# EAGLE library part TOS-23101BMRL-B (library 7seg-big)
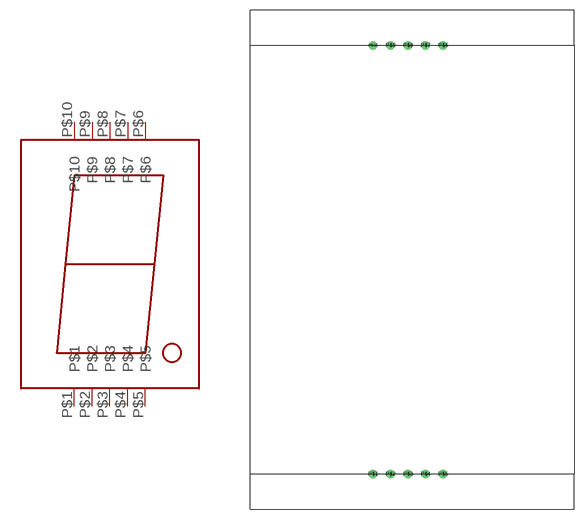
[diagram p0: symbol with the pads of TOS-23101BMRL-B; footprint TOS-23101BMRL-B]

Designator prefix -

## TOS-23101BMRL-B  [TOS-23101BMRL-B]
P$1  P$1
P$2  P$2
P$3  P$3
P$4  P$4
P$5  P$5
P$6  P$6
P$7  P$7
P$8  P$8
P$9  P$9
P$10  P$10

## Footprint TOS-23101BMRL-B (pad centres in mm)
drill 0.75: P$1 0,0; P$2 2.54,0; P$3 5.08,0; P$4 7.62,0; P$5 10.16,0; P$6 10.16,62.23; P$7 7.62,62.23; P$8 5.08,62.23; P$9 2.54,62.23; P$10 0,62.23